# Altium footprint library CONN_TBLOCK_7P5.PcbLib: 27 footprints (part 2 of 2)
Each footprint in its own frame and in the unit in brackets; x right, y up, seen from the top. Pads: shape width x height; smd on the part's side, far side on the other; paste and mask are expansions set on the pad; w line width, h text height; cw(c..) or ccw(c..) is an arc to the next point about the centre after c.
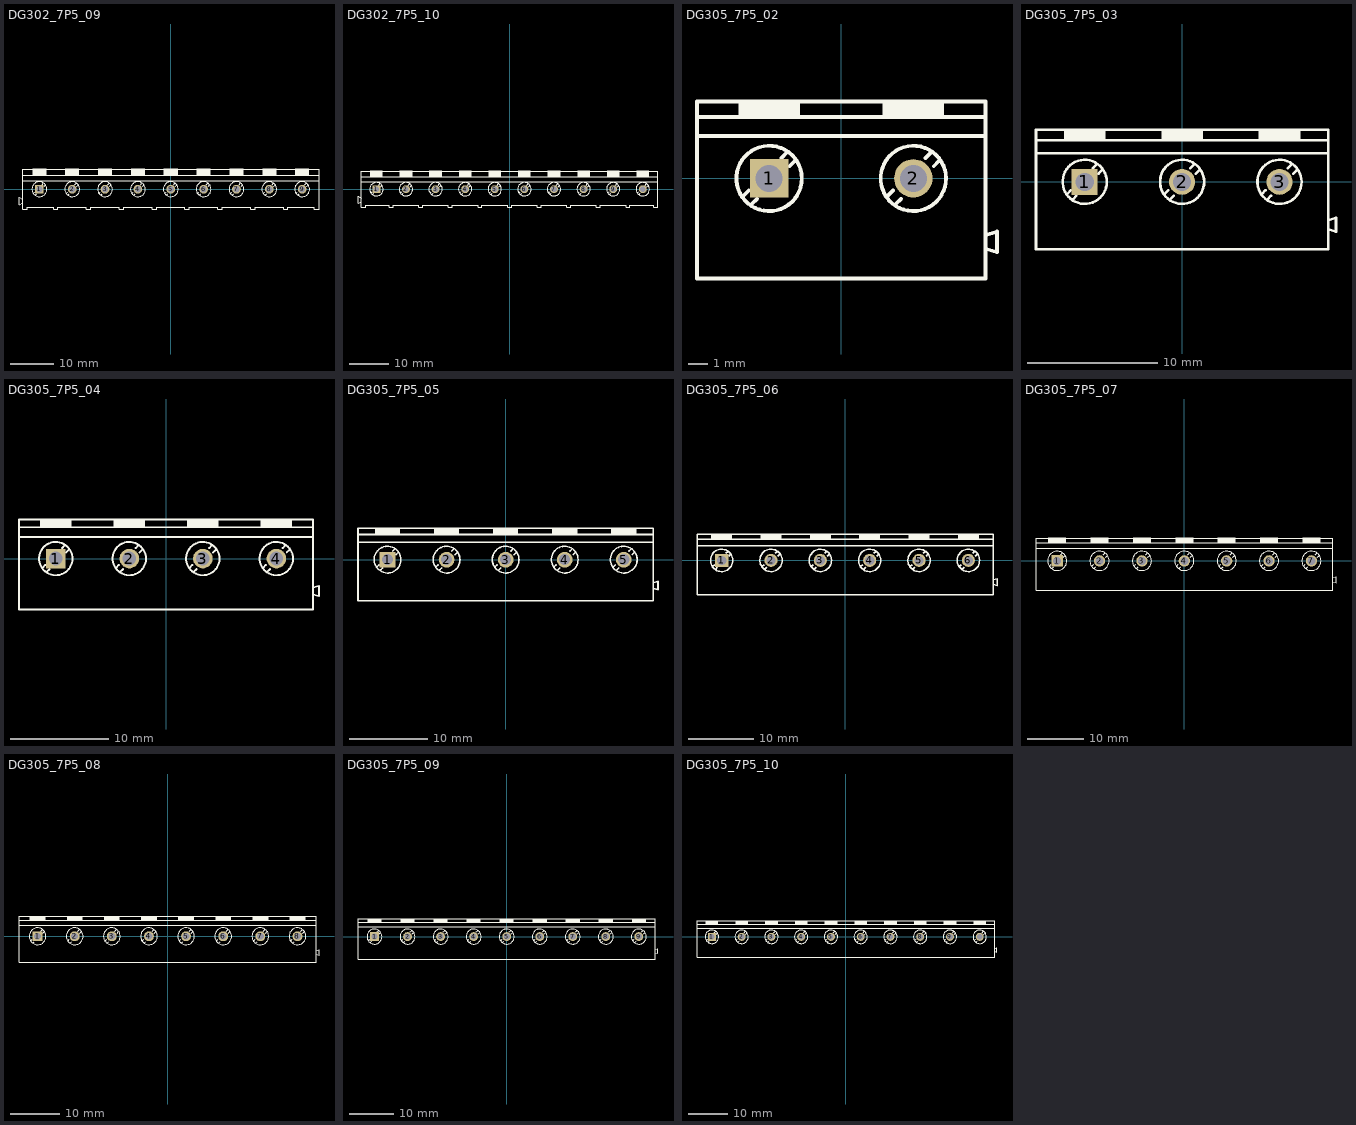
[diagram p1: the footprints below, top view; thin cyan lines are the x and y axes]

## DG302_7P5_09 [mm] "Terminal B screw, Pitch 7.5mm, H 13.5mm"
height 13.5
pads (9):
  rect 2x2 / inner rect 2x2 / far side rect 2.4x3 hole 1.4: 1(-30,0)
  round 2 / inner round 2 / far side oval 2.4x3 hole 1.4: 2(-22.5,0) 3(-15,0) 4(-7.5,0) 5(0,0) 6(7.5,0) 7(15,0) 8(22.5,0) 9(30,0)
Top Overlay:
  circle w0.2: c30,0 r1.7
  circle w0.2: c22.5,0 r1.7
  circle w0.2: c15,0 r1.7
  circle w0.2: c7.5,0 r1.7
  circle w0.2: c0,0 r1.7
  circle w0.2: c-7.5,0 r1.7
  circle w0.2: c-15,0 r1.7
  circle w0.2: c-22.5,0 r1.7
  circle w0.2: c-30,0 r1.7
  region: 31.6,4.7 28.4,4.7 28.4,3.2 31.6,3.2
  region: 24.1,4.7 20.9,4.7 20.9,3.2 24.1,3.2
  region: 16.6,4.7 13.4,4.7 13.4,3.2 16.6,3.2
  region: 9.1,4.7 5.9,4.7 5.9,3.2 9.1,3.2
  region: 1.6,4.7 -1.6,4.7 -1.6,3.2 1.6,3.2
  region: -5.9,4.7 -9.1,4.7 -9.1,3.2 -5.9,3.2
  region: -13.4,4.7 -16.6,4.7 -16.6,3.2 -13.4,3.2
  region: -20.9,4.7 -24.1,4.7 -24.1,3.2 -20.9,3.2
  region: -28.4,4.7 -31.6,4.7 -31.6,3.2 -28.4,3.2
  lines w0.2: -33.837,-3.125 -34.65,-3.541 -34.65,-1.839 -33.837,-2.255 ; -33.75,1.9 33.85,1.9 ; -33.75,3.2 33.85,3.2 ; -31.344,-0.919 -31.061,-0.636 ; -30.919,-1.344 -30.636,-1.061 ; -29.364,1.061 -29.081,1.343 ; -28.939,0.636 -28.657,0.919 ; -23.844,-0.919 -23.561,-0.636 ; -23.419,-1.344 -23.136,-1.061 ; -21.864,1.061 -21.581,1.343 ; -21.439,0.636 -21.157,0.919 ; -16.344,-0.919 -16.061,-0.636 ; -15.919,-1.344 -15.636,-1.061 ; -14.364,1.061 -14.081,1.343 ; -13.939,0.636 -13.657,0.919 ; -8.844,-0.919 -8.561,-0.636 ; -8.419,-1.344 -8.136,-1.061 ; -6.864,1.061 -6.581,1.343 ; -6.439,0.636 -6.157,0.919 ; -1.344,-0.919 -1.061,-0.636 ; -0.919,-1.344 -0.636,-1.061 ; 0.636,1.061 0.919,1.343 ; 1.061,0.636 1.343,0.919 ; 6.156,-0.919 6.439,-0.636 ; 6.581,-1.344 6.864,-1.061 ; 8.136,1.061 8.419,1.343 ; 8.561,0.636 8.843,0.919 ; 13.656,-0.919 13.939,-0.636 ; 14.081,-1.344 14.364,-1.061 ; 15.636,1.061 15.919,1.343 ; 16.061,0.636 16.343,0.919 ; 21.156,-0.919 21.439,-0.636 ; 21.581,-1.344 21.864,-1.061 ; 23.136,1.061 23.419,1.343 ; 23.561,0.636 23.843,0.919 ; 28.656,-0.919 28.939,-0.636 ; 29.081,-1.344 29.364,-1.061 ; 30.636,1.061 30.919,1.343 ; 31.061,0.636 31.343,0.919 ; -33.85,-4.6 -33.85,4.6 33.85,4.6 33.85,-4.6 32.75,-4.6 32.75,-4.1 26.75,-4.1 26.75,-4.6 25.75,-4.6 25.75,-4.1 19.25,-4.1 19.25,-4.6 18.25,-4.6 18.25,-4.1 11.75,-4.1 11.75,-4.6 10.75,-4.6 10.75,-4.1 4.25,-4.1 4.25,-4.6 3.25,-4.6 3.25,-4.1 -3.25,-4.1 -3.25,-4.6 -4.25,-4.6 -4.25,-4.1 -10.75,-4.1 -10.75,-4.6 -11.75,-4.6 -11.75,-4.1 -18.25,-4.1 -18.25,-4.6 -19.25,-4.6 -19.25,-4.1 -25.75,-4.1 -25.75,-4.6 -26.75,-4.6 -26.75,-4.1 -32.75,-4.1 -32.75,-4.6 -33.85,-4.6
3D body "DG302-7.5-03P.stp": height 13.5, standoff -4.1, extent -34.585,-4.5 -11.215,4.5
3D body "DG302-7.5-03P.stp": height 13.5, standoff -4.1, extent -12.085,-4.5 11.285,4.5
3D body "DG302-7.5-03P.stp": height 13.5, standoff -4.1, extent 10.415,-4.5 33.785,4.5

## DG302_7P5_10 [mm] "Terminal B screw, Pitch 7.5mm, H 13.5mm"
height 13.5
pads (10):
  rect 2x2 / inner rect 2x2 / far side rect 2.4x3 hole 1.4: 1(-33.75,0)
  round 2 / inner round 2 / far side oval 2.4x3 hole 1.4: 2(-26.25,0) 3(-18.75,0) 4(-11.25,0) 5(-3.75,0) 6(3.75,0) 7(11.25,0) 8(18.75,0) 9(26.25,0) 10(33.75,0)
Top Overlay:
  circle w0.2: c33.75,0 r1.7
  circle w0.2: c26.25,0 r1.7
  circle w0.2: c18.75,0 r1.7
  circle w0.2: c11.25,0 r1.7
  circle w0.2: c3.75,0 r1.7
  circle w0.2: c-3.75,0 r1.7
  circle w0.2: c-11.25,0 r1.7
  circle w0.2: c-18.75,0 r1.7
  circle w0.2: c-26.25,0 r1.7
  circle w0.2: c-33.75,0 r1.7
  region: 35.35,4.7 32.15,4.7 32.15,3.2 35.35,3.2
  region: 27.85,4.7 24.65,4.7 24.65,3.2 27.85,3.2
  region: 20.35,4.7 17.15,4.7 17.15,3.2 20.35,3.2
  region: 12.85,4.7 9.65,4.7 9.65,3.2 12.85,3.2
  region: 5.35,4.7 2.15,4.7 2.15,3.2 5.35,3.2
  region: -2.15,4.7 -5.35,4.7 -5.35,3.2 -2.15,3.2
  region: -9.65,4.7 -12.85,4.7 -12.85,3.2 -9.65,3.2
  region: -17.15,4.7 -20.35,4.7 -20.35,3.2 -17.15,3.2
  region: -24.65,4.7 -27.85,4.7 -27.85,3.2 -24.65,3.2
  region: -32.15,4.7 -35.35,4.7 -35.35,3.2 -32.15,3.2
  lines w0.2: -37.587,-3.125 -38.4,-3.541 -38.4,-1.839 -37.587,-2.255 ; -37.5,1.9 37.6,1.9 ; -37.5,3.2 37.6,3.2 ; -35.094,-0.919 -34.811,-0.636 ; -34.669,-1.344 -34.386,-1.061 ; -33.114,1.061 -32.831,1.343 ; -32.689,0.636 -32.407,0.919 ; -27.594,-0.919 -27.311,-0.636 ; -27.169,-1.344 -26.886,-1.061 ; -25.614,1.061 -25.331,1.343 ; -25.189,0.636 -24.907,0.919 ; -20.094,-0.919 -19.811,-0.636 ; -19.669,-1.344 -19.386,-1.061 ; -18.114,1.061 -17.831,1.343 ; -17.689,0.636 -17.407,0.919 ; -12.594,-0.919 -12.311,-0.636 ; -12.169,-1.344 -11.886,-1.061 ; -10.614,1.061 -10.331,1.343 ; -10.189,0.636 -9.907,0.919 ; -5.094,-0.919 -4.811,-0.636 ; -4.669,-1.344 -4.386,-1.061 ; -3.114,1.061 -2.831,1.343 ; -2.689,0.636 -2.407,0.919 ; 2.406,-0.919 2.689,-0.636 ; 2.831,-1.344 3.114,-1.061 ; 4.386,1.061 4.669,1.343 ; 4.811,0.636 5.093,0.919 ; 9.906,-0.919 10.189,-0.636 ; 10.331,-1.344 10.614,-1.061 ; 11.886,1.061 12.169,1.343 ; 12.311,0.636 12.593,0.919 ; 17.406,-0.919 17.689,-0.636 ; 17.831,-1.344 18.114,-1.061 ; 19.386,1.061 19.669,1.343 ; 19.811,0.636 20.093,0.919 ; 24.906,-0.919 25.189,-0.636 ; 25.331,-1.344 25.614,-1.061 ; 26.886,1.061 27.169,1.343 ; 27.311,0.636 27.593,0.919 ; 32.406,-0.919 32.689,-0.636 ; 32.831,-1.344 33.114,-1.061 ; 34.386,1.061 34.669,1.343 ; 34.811,0.636 35.093,0.919 ; -37.6,-4.6 -37.6,4.6 37.6,4.6 37.6,-4.6 36.5,-4.6 36.5,-4.1 30.5,-4.1 30.5,-4.6 29.5,-4.6 29.5,-4.1 23,-4.1 23,-4.6 22,-4.6 22,-4.1 15.5,-4.1 15.5,-4.6 14.5,-4.6 14.5,-4.1 8,-4.1 8,-4.6 7,-4.6 7,-4.1 0.5,-4.1 0.5,-4.6 -0.5,-4.6 -0.5,-4.1 -7,-4.1 -7,-4.6 -8,-4.6 -8,-4.1 -14.5,-4.1 -14.5,-4.6 -15.5,-4.6 -15.5,-4.1 -22,-4.1 -22,-4.6 -23,-4.6 -23,-4.1 -29.5,-4.1 -29.5,-4.6 -30.5,-4.6 -30.5,-4.1 -36.5,-4.1 -36.5,-4.6 -37.6,-4.6
3D body "DG302-7.5-02P.stp": height 13.5, standoff -4.1, extent -38.335,-4.5 -22.465,4.5
3D body "DG302-7.5-03P.stp": height 13.5, standoff -4.1, extent -23.335,-4.5 0.035,4.5
3D body "DG302-7.5-02P.stp": height 13.5, standoff -4.1, extent -0.835,-4.5 15.035,4.5
3D body "DG302-7.5-03P.stp": height 13.5, standoff -4.1, extent 14.165,-4.5 37.535,4.5

## DG305_7P5_02 [mm] "Terminal B screw, Pitch 7.5mm, H 12.7mm"
pads (2):
  rect 2x2 / inner rect 2x2 / far side rect 2.4x3 hole 1.4: 1(-3.75,0)
  round 2 / inner round 2 / far side oval 2.4x3 hole 1.4: 2(3.75,0)
Top Overlay:
  circle w0.2: c3.75,0 r1.7
  circle w0.2: c-3.75,0 r1.7
  region: -2.15,4.1 -5.35,4.1 -5.35,3.1 -2.15,3.1
  region: 5.35,4.1 2.15,4.1 2.15,3.1 5.35,3.1
  lines w0.2: -7.5,2.2 7.5,2.2 ; -7.5,3.2 7.5,3.2 ; -5.094,-0.919 -4.811,-0.636 ; -4.669,-1.344 -4.386,-1.061 ; -3.114,1.061 -2.831,1.343 ; -2.689,0.636 -2.407,0.919 ; 2.406,-0.919 2.689,-0.636 ; 2.831,-1.344 3.114,-1.061 ; 4.386,1.061 4.669,1.343 ; 4.811,0.636 5.093,0.919 ; 7.513,-3.663 8.1,-3.841 8.1,-2.767 7.513,-2.944 ; -7.5,-5.2 -7.5,4 7.5,4 7.5,-5.2 -7.5,-5.2
3D body "DG305-7.5-02P-12-00AH.STEP": height 12.6, standoff -4.9, extent -7.546,-5.08 8.054,3.92

## DG305_7P5_03 [mm] "Terminal B screw, Pitch 7.5mm, H 12.7mm"
pads (3):
  rect 2x2 / inner rect 2x2 / far side rect 2.4x3 hole 1.4: 1(-7.5,0)
  round 2 / inner round 2 / far side oval 2.4x3 hole 1.4: 2(0,0) 3(7.5,0)
Top Overlay:
  circle w0.2: c7.5,0 r1.7
  circle w0.2: c0,0 r1.7
  circle w0.2: c-7.5,0 r1.7
  region: 1.6,4.1 -1.6,4.1 -1.6,3.1 1.6,3.1
  region: 9.1,4.1 5.9,4.1 5.9,3.1 9.1,3.1
  region: -5.9,4.1 -9.1,4.1 -9.1,3.1 -5.9,3.1
  lines w0.2: -11.25,2.2 11.25,2.2 ; -11.25,3.2 11.25,3.2 ; -8.844,-0.919 -8.561,-0.636 ; -8.419,-1.344 -8.136,-1.061 ; -6.864,1.061 -6.581,1.343 ; -6.439,0.636 -6.157,0.919 ; -1.344,-0.919 -1.061,-0.636 ; -0.919,-1.344 -0.636,-1.061 ; 0.636,1.061 0.919,1.343 ; 1.061,0.636 1.343,0.919 ; 6.156,-0.919 6.439,-0.636 ; 6.581,-1.344 6.864,-1.061 ; 8.136,1.061 8.419,1.343 ; 8.561,0.636 8.843,0.919 ; 11.263,-3.663 11.85,-3.841 11.85,-2.767 11.263,-2.944 ; -11.25,-5.2 -11.25,4 11.25,4 11.25,-5.2 -11.25,-5.2
3D body "DG305-7.5-03P-12-00AH.STEP": height 12.6, standoff -4.9, extent -11.176,-5.036 11.924,3.964

## DG305_7P5_04 [mm] "Terminal B screw, Pitch 7.5mm, H 12.7mm"
pads (4):
  rect 2x2 / inner rect 2x2 / far side rect 2.4x3 hole 1.4: 1(-11.25,0)
  round 2 / inner round 2 / far side oval 2.4x3 hole 1.4: 2(-3.75,0) 3(3.75,0) 4(11.25,0)
Top Overlay:
  circle w0.2: c-11.25,0 r1.7
  circle w0.2: c-3.75,0 r1.7
  circle w0.2: c3.75,0 r1.7
  circle w0.2: c11.25,0 r1.7
  region: -2.15,4.1 -5.35,4.1 -5.35,3.1 -2.15,3.1
  region: -9.65,4.1 -12.85,4.1 -12.85,3.1 -9.65,3.1
  region: 12.85,4.1 9.65,4.1 9.65,3.1 12.85,3.1
  region: 5.35,4.1 2.15,4.1 2.15,3.1 5.35,3.1
  lines w0.2: -15,2.2 15,2.2 ; -15,3.2 15,3.2 ; -12.594,-0.919 -12.311,-0.636 ; -12.169,-1.344 -11.886,-1.061 ; -10.614,1.061 -10.331,1.343 ; -10.189,0.636 -9.907,0.919 ; -5.094,-0.919 -4.811,-0.636 ; -4.669,-1.344 -4.386,-1.061 ; -3.114,1.061 -2.831,1.343 ; -2.689,0.636 -2.407,0.919 ; 2.406,-0.919 2.689,-0.636 ; 2.831,-1.344 3.114,-1.061 ; 4.386,1.061 4.669,1.343 ; 4.811,0.636 5.093,0.919 ; 9.906,-0.919 10.189,-0.636 ; 10.331,-1.344 10.614,-1.061 ; 11.886,1.061 12.169,1.343 ; 12.311,0.636 12.593,0.919 ; 15.013,-3.663 15.6,-3.841 15.6,-2.767 15.013,-2.944 ; -15,-5.2 15,-5.2 15,4 -15,4 -15,-5.2
3D body "DG305-7.5-04P-12-00AH.STEP": height 12.6, standoff -4.9, extent -14.961,-5.08 15.639,3.92

## DG305_7P5_05 [mm] "Terminal B screw, Pitch 7.5mm, H 12.7mm"
pads (5):
  rect 2x2 / inner rect 2x2 / far side rect 2.4x3 hole 1.4: 1(-15,0)
  round 2 / inner round 2 / far side oval 2.4x3 hole 1.4: 2(-7.5,0) 3(0,0) 4(7.5,0) 5(15,0)
Top Overlay:
  circle w0.2: c-15,0 r1.7
  circle w0.2: c-7.5,0 r1.7
  circle w0.2: c0,0 r1.7
  circle w0.2: c7.5,0 r1.7
  circle w0.2: c15,0 r1.7
  region: -13.4,4.1 -16.6,4.1 -16.6,3.1 -13.4,3.1
  region: 1.6,4.1 -1.6,4.1 -1.6,3.1 1.6,3.1
  region: -5.9,4.1 -9.1,4.1 -9.1,3.1 -5.9,3.1
  region: 16.6,4.1 13.4,4.1 13.4,3.1 16.6,3.1
  region: 9.1,4.1 5.9,4.1 5.9,3.1 9.1,3.1
  lines w0.2: -18.75,2.2 18.75,2.2 ; -18.75,3.2 18.75,3.2 ; -16.344,-0.919 -16.061,-0.636 ; -15.919,-1.344 -15.636,-1.061 ; -14.364,1.061 -14.081,1.343 ; -13.939,0.636 -13.657,0.919 ; -8.844,-0.919 -8.561,-0.636 ; -8.419,-1.344 -8.136,-1.061 ; -6.864,1.061 -6.581,1.343 ; -6.439,0.636 -6.157,0.919 ; -1.344,-0.919 -1.061,-0.636 ; -0.919,-1.344 -0.636,-1.061 ; 0.636,1.061 0.919,1.343 ; 1.061,0.636 1.343,0.919 ; 6.156,-0.919 6.439,-0.636 ; 6.581,-1.344 6.864,-1.061 ; 8.136,1.061 8.419,1.343 ; 8.561,0.636 8.843,0.919 ; 13.656,-0.919 13.939,-0.636 ; 14.081,-1.344 14.364,-1.061 ; 15.636,1.061 15.919,1.343 ; 16.061,0.636 16.343,0.919 ; 18.763,-3.663 19.35,-3.841 19.35,-2.767 18.763,-2.944 ; -18.75,-5.2 18.75,-5.2 18.75,4 -18.75,4 -18.75,-5.2
3D body "DG305-7.5-05P-12-00AH.STEP": height 12.6, standoff -4.9, extent -18.718,-4.953 19.382,4.047

## DG305_7P5_06 [mm] "Terminal B screw, Pitch 7.5mm, H 12.7mm"
pads (6):
  rect 2x2 / inner rect 2x2 / far side rect 2.4x3 hole 1.4: 1(-18.75,0)
  round 2 / inner round 2 / far side oval 2.4x3 hole 1.4: 2(-11.25,0) 3(-3.75,0) 4(3.75,0) 5(11.25,0) 6(18.75,0)
Top Overlay:
  circle w0.2: c18.75,0 r1.7
  circle w0.2: c11.25,0 r1.7
  circle w0.2: c3.75,0 r1.7
  circle w0.2: c-3.75,0 r1.7
  circle w0.2: c-11.25,0 r1.7
  circle w0.2: c-18.75,0 r1.7
  region: 12.85,4.1 9.65,4.1 9.65,3.1 12.85,3.1
  region: 20.35,4.1 17.15,4.1 17.15,3.1 20.35,3.1
  region: -2.15,4.1 -5.35,4.1 -5.35,3.1 -2.15,3.1
  region: 5.35,4.1 2.15,4.1 2.15,3.1 5.35,3.1
  region: -17.15,4.1 -20.35,4.1 -20.35,3.1 -17.15,3.1
  region: -9.65,4.1 -12.85,4.1 -12.85,3.1 -9.65,3.1
  lines w0.2: -22.5,2.2 22.5,2.2 ; -22.5,3.2 22.5,3.2 ; -20.094,-0.919 -19.811,-0.636 ; -19.669,-1.344 -19.386,-1.061 ; -18.114,1.061 -17.831,1.343 ; -17.689,0.636 -17.407,0.919 ; -12.594,-0.919 -12.311,-0.636 ; -12.169,-1.344 -11.886,-1.061 ; -10.614,1.061 -10.331,1.343 ; -10.189,0.636 -9.907,0.919 ; -5.094,-0.919 -4.811,-0.636 ; -4.669,-1.344 -4.386,-1.061 ; -3.114,1.061 -2.831,1.343 ; -2.689,0.636 -2.407,0.919 ; 2.406,-0.919 2.689,-0.636 ; 2.831,-1.344 3.114,-1.061 ; 4.386,1.061 4.669,1.343 ; 4.811,0.636 5.093,0.919 ; 9.906,-0.919 10.189,-0.636 ; 10.331,-1.344 10.614,-1.061 ; 11.886,1.061 12.169,1.343 ; 12.311,0.636 12.593,0.919 ; 17.406,-0.919 17.689,-0.636 ; 17.831,-1.344 18.114,-1.061 ; 19.386,1.061 19.669,1.343 ; 19.811,0.636 20.093,0.919 ; 22.513,-3.663 23.1,-3.841 23.1,-2.767 22.513,-2.944 ; -22.5,-5.2 -22.5,4 22.5,4 22.5,-5.2 -22.5,-5.2
3D body "DG305-7.5-06P-12-00AH.STEP": height 12.6, standoff -4.9, extent -22.475,-5.08 23.125,3.92

## DG305_7P5_07 [mm] "Terminal B screw, Pitch 7.5mm, H 12.7mm"
pads (7):
  rect 2x2 / inner rect 2x2 / far side rect 2.4x3 hole 1.4: 1(-22.5,0)
  round 2 / inner round 2 / far side oval 2.4x3 hole 1.4: 2(-15,0) 3(-7.5,0) 4(0,0) 5(7.5,0) 6(15,0) 7(22.5,0)
Top Overlay:
  circle w0.2: c-22.5,0 r1.7
  circle w0.2: c-15,0 r1.7
  circle w0.2: c-7.5,0 r1.7
  circle w0.2: c0,0 r1.7
  circle w0.2: c7.5,0 r1.7
  circle w0.2: c15,0 r1.7
  circle w0.2: c22.5,0 r1.7
  region: -20.9,4.1 -24.1,4.1 -24.1,3.1 -20.9,3.1
  region: -5.9,4.1 -9.1,4.1 -9.1,3.1 -5.9,3.1
  region: -13.4,4.1 -16.6,4.1 -16.6,3.1 -13.4,3.1
  region: 9.1,4.1 5.9,4.1 5.9,3.1 9.1,3.1
  region: 1.6,4.1 -1.6,4.1 -1.6,3.1 1.6,3.1
  region: 24.1,4.1 20.9,4.1 20.9,3.1 24.1,3.1
  region: 16.6,4.1 13.4,4.1 13.4,3.1 16.6,3.1
  lines w0.2: -26.25,2.2 26.25,2.2 ; -26.25,3.2 26.25,3.2 ; -23.844,-0.919 -23.561,-0.636 ; -23.419,-1.344 -23.136,-1.061 ; -21.864,1.061 -21.581,1.343 ; -21.439,0.636 -21.157,0.919 ; -16.344,-0.919 -16.061,-0.636 ; -15.919,-1.344 -15.636,-1.061 ; -14.364,1.061 -14.081,1.343 ; -13.939,0.636 -13.657,0.919 ; -8.844,-0.919 -8.561,-0.636 ; -8.419,-1.344 -8.136,-1.061 ; -6.864,1.061 -6.581,1.343 ; -6.439,0.636 -6.157,0.919 ; -1.344,-0.919 -1.061,-0.636 ; -0.919,-1.344 -0.636,-1.061 ; 0.636,1.061 0.919,1.343 ; 1.061,0.636 1.343,0.919 ; 6.156,-0.919 6.439,-0.636 ; 6.581,-1.344 6.864,-1.061 ; 8.136,1.061 8.419,1.343 ; 8.561,0.636 8.843,0.919 ; 13.656,-0.919 13.939,-0.636 ; 14.081,-1.344 14.364,-1.061 ; 15.636,1.061 15.919,1.343 ; 16.061,0.636 16.343,0.919 ; 21.156,-0.919 21.439,-0.636 ; 21.581,-1.344 21.864,-1.061 ; 23.136,1.061 23.419,1.343 ; 23.561,0.636 23.843,0.919 ; 26.263,-3.663 26.85,-3.841 26.85,-2.767 26.263,-2.944 ; -26.25,-5.2 26.25,-5.2 26.25,4 -26.25,4 -26.25,-5.2
3D body "DG305-7.5-07P-12-00AH.STEP": height 12.6, standoff -4.9, extent -26.232,-5.08 26.868,3.92

## DG305_7P5_08 [mm] "Terminal B screw, Pitch 7.5mm, H 12.7mm"
pads (8):
  rect 2x2 / inner rect 2x2 / far side rect 2.4x3 hole 1.4: 1(-26.25,0)
  round 2 / inner round 2 / far side oval 2.4x3 hole 1.4: 2(-18.75,0) 3(-11.25,0) 4(-3.75,0) 5(3.75,0) 6(11.25,0) 7(18.75,0) 8(26.25,0)
Top Overlay:
  circle w0.2: c26.25,0 r1.7
  circle w0.2: c18.75,0 r1.7
  circle w0.2: c11.25,0 r1.7
  circle w0.2: c3.75,0 r1.7
  circle w0.2: c-3.75,0 r1.7
  circle w0.2: c-11.25,0 r1.7
  circle w0.2: c-18.75,0 r1.7
  circle w0.2: c-26.25,0 r1.7
  region: 20.35,4.1 17.15,4.1 17.15,3.1 20.35,3.1
  region: 27.85,4.1 24.65,4.1 24.65,3.1 27.85,3.1
  region: 5.35,4.1 2.15,4.1 2.15,3.1 5.35,3.1
  region: 12.85,4.1 9.65,4.1 9.65,3.1 12.85,3.1
  region: -9.65,4.1 -12.85,4.1 -12.85,3.1 -9.65,3.1
  region: -2.15,4.1 -5.35,4.1 -5.35,3.1 -2.15,3.1
  region: -24.65,4.1 -27.85,4.1 -27.85,3.1 -24.65,3.1
  region: -17.15,4.1 -20.35,4.1 -20.35,3.1 -17.15,3.1
  lines w0.2: -30,2.2 30,2.2 ; -30,3.2 30,3.2 ; -27.594,-0.919 -27.311,-0.636 ; -27.169,-1.344 -26.886,-1.061 ; -25.614,1.061 -25.331,1.343 ; -25.189,0.636 -24.907,0.919 ; -20.094,-0.919 -19.811,-0.636 ; -19.669,-1.344 -19.386,-1.061 ; -18.114,1.061 -17.831,1.343 ; -17.689,0.636 -17.407,0.919 ; -12.594,-0.919 -12.311,-0.636 ; -12.169,-1.344 -11.886,-1.061 ; -10.614,1.061 -10.331,1.343 ; -10.189,0.636 -9.907,0.919 ; -5.094,-0.919 -4.811,-0.636 ; -4.669,-1.344 -4.386,-1.061 ; -3.114,1.061 -2.831,1.343 ; -2.689,0.636 -2.407,0.919 ; 2.406,-0.919 2.689,-0.636 ; 2.831,-1.344 3.114,-1.061 ; 4.386,1.061 4.669,1.343 ; 4.811,0.636 5.093,0.919 ; 9.906,-0.919 10.189,-0.636 ; 10.331,-1.344 10.614,-1.061 ; 11.886,1.061 12.169,1.343 ; 12.311,0.636 12.593,0.919 ; 17.406,-0.919 17.689,-0.636 ; 17.831,-1.344 18.114,-1.061 ; 19.386,1.061 19.669,1.343 ; 19.811,0.636 20.093,0.919 ; 24.906,-0.919 25.189,-0.636 ; 25.331,-1.344 25.614,-1.061 ; 26.886,1.061 27.169,1.343 ; 27.311,0.636 27.593,0.919 ; 30.013,-3.663 30.6,-3.841 30.6,-2.767 30.013,-2.944 ; -30,-5.2 -30,4 30,4 30,-5.2 -30,-5.2
3D body "DG305-7.5-08P-12-00AH.STEP": height 12.6, standoff -4.9, extent -29.989,-5.08 30.611,3.92

## DG305_7P5_09 [mm] "Terminal B screw, Pitch 7.5mm, H 12.7mm"
pads (9):
  rect 2x2 / inner rect 2x2 / far side rect 2.4x3 hole 1.4: 1(-30,0)
  round 2 / inner round 2 / far side oval 2.4x3 hole 1.4: 2(-22.5,0) 3(-15,0) 4(-7.5,0) 5(0,0) 6(7.5,0) 7(15,0) 8(22.5,0) 9(30,0)
Top Overlay:
  circle w0.2: c-30,0 r1.7
  circle w0.2: c-22.5,0 r1.7
  circle w0.2: c-15,0 r1.7
  circle w0.2: c-7.5,0 r1.7
  circle w0.2: c0,0 r1.7
  circle w0.2: c7.5,0 r1.7
  circle w0.2: c15,0 r1.7
  circle w0.2: c22.5,0 r1.7
  circle w0.2: c30,0 r1.7
  region: -28.4,4.1 -31.6,4.1 -31.6,3.1 -28.4,3.1
  region: -13.4,4.1 -16.6,4.1 -16.6,3.1 -13.4,3.1
  region: -20.9,4.1 -24.1,4.1 -24.1,3.1 -20.9,3.1
  region: 1.6,4.1 -1.6,4.1 -1.6,3.1 1.6,3.1
  region: -5.9,4.1 -9.1,4.1 -9.1,3.1 -5.9,3.1
  region: 16.6,4.1 13.4,4.1 13.4,3.1 16.6,3.1
  region: 9.1,4.1 5.9,4.1 5.9,3.1 9.1,3.1
  region: 31.6,4.1 28.4,4.1 28.4,3.1 31.6,3.1
  region: 24.1,4.1 20.9,4.1 20.9,3.1 24.1,3.1
  lines w0.2: -33.75,2.2 33.75,2.2 ; -33.75,3.2 33.75,3.2 ; -31.344,-0.919 -31.061,-0.636 ; -30.919,-1.344 -30.636,-1.061 ; -29.364,1.061 -29.081,1.343 ; -28.939,0.636 -28.657,0.919 ; -23.844,-0.919 -23.561,-0.636 ; -23.419,-1.344 -23.136,-1.061 ; -21.864,1.061 -21.581,1.343 ; -21.439,0.636 -21.157,0.919 ; -16.344,-0.919 -16.061,-0.636 ; -15.919,-1.344 -15.636,-1.061 ; -14.364,1.061 -14.081,1.343 ; -13.939,0.636 -13.657,0.919 ; -8.844,-0.919 -8.561,-0.636 ; -8.419,-1.344 -8.136,-1.061 ; -6.864,1.061 -6.581,1.343 ; -6.439,0.636 -6.157,0.919 ; -1.344,-0.919 -1.061,-0.636 ; -0.919,-1.344 -0.636,-1.061 ; 0.636,1.061 0.919,1.343 ; 1.061,0.636 1.343,0.919 ; 6.156,-0.919 6.439,-0.636 ; 6.581,-1.344 6.864,-1.061 ; 8.136,1.061 8.419,1.343 ; 8.561,0.636 8.843,0.919 ; 13.656,-0.919 13.939,-0.636 ; 14.081,-1.344 14.364,-1.061 ; 15.636,1.061 15.919,1.343 ; 16.061,0.636 16.343,0.919 ; 21.156,-0.919 21.439,-0.636 ; 21.581,-1.344 21.864,-1.061 ; 23.136,1.061 23.419,1.343 ; 23.561,0.636 23.843,0.919 ; 28.656,-0.919 28.939,-0.636 ; 29.081,-1.344 29.364,-1.061 ; 30.636,1.061 30.919,1.343 ; 31.061,0.636 31.343,0.919 ; 33.763,-3.663 34.35,-3.841 34.35,-2.767 33.763,-2.944 ; -33.75,-5.2 33.75,-5.2 33.75,4 -33.75,4 -33.75,-5.2
3D body "DG305-7.5-09P-12-00AH.STEP": height 12.6, standoff -4.9, extent -33.746,-5.08 34.354,3.92

## DG305_7P5_10 [mm] "Terminal B screw, Pitch 7.5mm, H 12.7mm"
pads (10):
  rect 2x2 / inner rect 2x2 / far side rect 2.4x3 hole 1.4: 1(-33.75,0)
  round 2 / inner round 2 / far side oval 2.4x3 hole 1.4: 2(-26.25,0) 3(-18.75,0) 4(-11.25,0) 5(-3.75,0) 6(3.75,0) 7(11.25,0) 8(18.75,0) 9(26.25,0) 10(33.75,0)
Top Overlay:
  circle w0.2: c-33.75,0 r1.7
  circle w0.2: c-26.25,0 r1.7
  circle w0.2: c-18.75,0 r1.7
  circle w0.2: c-11.25,0 r1.7
  circle w0.2: c-3.75,0 r1.7
  circle w0.2: c3.75,0 r1.7
  circle w0.2: c11.25,0 r1.7
  circle w0.2: c18.75,0 r1.7
  circle w0.2: c26.25,0 r1.7
  circle w0.2: c33.75,0 r1.7
  region: -24.65,4.1 -27.85,4.1 -27.85,3.1 -24.65,3.1
  region: -32.15,4.1 -35.35,4.1 -35.35,3.1 -32.15,3.1
  region: -9.65,4.1 -12.85,4.1 -12.85,3.1 -9.65,3.1
  region: -17.15,4.1 -20.35,4.1 -20.35,3.1 -17.15,3.1
  region: 5.35,4.1 2.15,4.1 2.15,3.1 5.35,3.1
  region: -2.15,4.1 -5.35,4.1 -5.35,3.1 -2.15,3.1
  region: 20.35,4.1 17.15,4.1 17.15,3.1 20.35,3.1
  region: 12.85,4.1 9.65,4.1 9.65,3.1 12.85,3.1
  region: 35.35,4.1 32.15,4.1 32.15,3.1 35.35,3.1
  region: 27.85,4.1 24.65,4.1 24.65,3.1 27.85,3.1
  lines w0.2: -37.5,2.2 37.5,2.2 ; -37.5,3.2 37.5,3.2 ; -35.094,-0.919 -34.811,-0.636 ; -34.669,-1.344 -34.386,-1.061 ; -33.114,1.061 -32.831,1.343 ; -32.689,0.636 -32.407,0.919 ; -27.594,-0.919 -27.311,-0.636 ; -27.169,-1.344 -26.886,-1.061 ; -25.614,1.061 -25.331,1.343 ; -25.189,0.636 -24.907,0.919 ; -20.094,-0.919 -19.811,-0.636 ; -19.669,-1.344 -19.386,-1.061 ; -18.114,1.061 -17.831,1.343 ; -17.689,0.636 -17.407,0.919 ; -12.594,-0.919 -12.311,-0.636 ; -12.169,-1.344 -11.886,-1.061 ; -10.614,1.061 -10.331,1.343 ; -10.189,0.636 -9.907,0.919 ; -5.094,-0.919 -4.811,-0.636 ; -4.669,-1.344 -4.386,-1.061 ; -3.114,1.061 -2.831,1.343 ; -2.689,0.636 -2.407,0.919 ; 2.406,-0.919 2.689,-0.636 ; 2.831,-1.344 3.114,-1.061 ; 4.386,1.061 4.669,1.343 ; 4.811,0.636 5.093,0.919 ; 9.906,-0.919 10.189,-0.636 ; 10.331,-1.344 10.614,-1.061 ; 11.886,1.061 12.169,1.343 ; 12.311,0.636 12.593,0.919 ; 17.406,-0.919 17.689,-0.636 ; 17.831,-1.344 18.114,-1.061 ; 19.386,1.061 19.669,1.343 ; 19.811,0.636 20.093,0.919 ; 24.906,-0.919 25.189,-0.636 ; 25.331,-1.344 25.614,-1.061 ; 26.886,1.061 27.169,1.343 ; 27.311,0.636 27.593,0.919 ; 32.406,-0.919 32.689,-0.636 ; 32.831,-1.344 33.114,-1.061 ; 34.386,1.061 34.669,1.343 ; 34.811,0.636 35.093,0.919 ; 37.513,-3.663 38.1,-3.841 38.1,-2.767 37.513,-2.944 ; -37.5,-5.2 37.5,-5.2 37.5,4 -37.5,4 -37.5,-5.2
3D body "DG305-7.5-10P-12-00AH.STEP": height 12.6, standoff -4.9, extent -37.503,-5.08 38.097,3.92